# Altium footprint library AD7302BRUZ.PcbLib: 1 footprints
Each footprint in its own frame and in the unit in brackets; x right, y up, seen from the top. Pads: shape width x height; smd on the part's side, far side on the other; paste and mask are expansions set on the pad; w line width, h text height; cw(c..) or ccw(c..) is an arc to the next point about the centre after c.
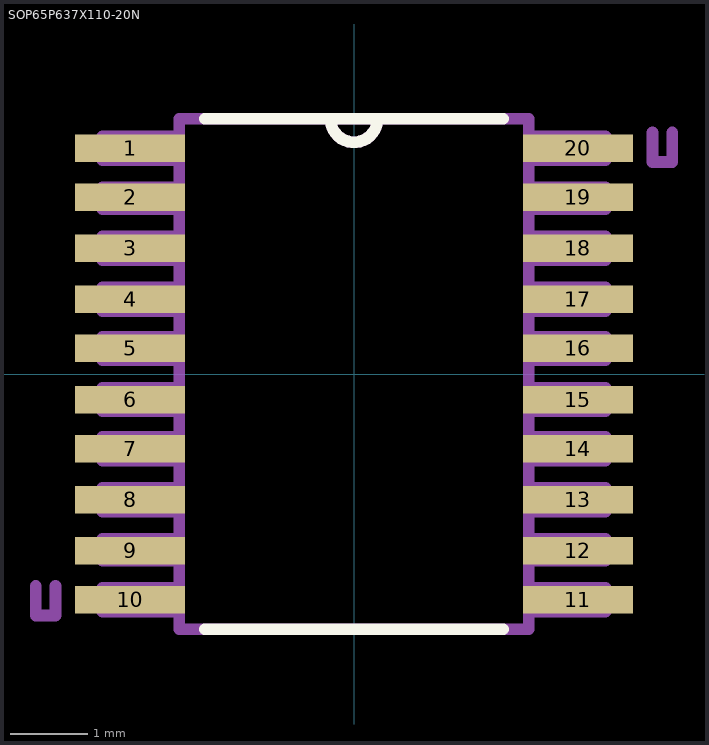
[diagram p0: the footprint, top view; thin cyan lines are the x and y axes]

## SOP65P637X110-20N [mil]
pads (20):
  rect 56x14 smd: 1(-114,115) 2(-114,90) 3(-114,64) 4(-114,38) 5(-114,13) 6(-114,-13) 7(-114,-38) 8(-114,-64) 9(-114,-90) 10(-114,-115) 11(114,-115) 12(114,-90) 13(114,-64) 14(114,-38) 15(114,-13) 16(114,13) 17(114,38) 18(114,64) 19(114,90) 20(114,115)
Top Overlay:
  lines w6: -76,-130 76,-130 ; -76,130 -12,130 ; 76,130 12,130 ; -12,130 ccw(c0,130) 12,130 ; -12,130 12,130
Mechanical 13:
  lines w6: -162,-108 -162,-123 -152,-123 -152,-108 ; 152,123 152,108 162,108 162,123 ; -12,130 ccw(c0,130) 12,130 ; -12,130 -89,130 -89,-130 89,-130 89,130 12,130 ; -12,130 12,130 ; -128,-121 -89,-121 -89,-109 -128,-109 -128,-121 ; -128,-95 -89,-95 -89,-84 -128,-84 -128,-95 ; -128,-70 -89,-70 -89,-58 -128,-58 -128,-70 ; -128,-44 -89,-44 -89,-32 -128,-32 -128,-44 ; -128,-19 -89,-19 -89,-7 -128,-7 -128,-19 ; -128,7 -89,7 -89,19 -128,19 -128,7 ; -128,32 -89,32 -89,44 -128,44 -128,32 ; -128,58 -89,58 -89,70 -128,70 -128,58 ; -128,84 -89,84 -89,95 -128,95 -128,84 ; -128,109 -89,109 -89,121 -128,121 -128,109 ; 89,-121 128,-121 128,-109 89,-109 89,-121 ; 89,-95 128,-95 128,-84 89,-84 89,-95 ; 89,-70 128,-70 128,-58 89,-58 89,-70 ; 89,-44 128,-44 128,-32 89,-32 89,-44 ; 89,-19 128,-19 128,-7 89,-7 89,-19 ; 89,7 128,7 128,19 89,19 89,7 ; 89,32 128,32 128,44 89,44 89,32 ; 89,58 128,58 128,70 89,70 89,58 ; 89,84 128,84 128,95 89,95 89,84 ; 89,109 128,109 128,121 89,121 89,109
  text "*" at -147.37,124.31 h50.12